# EAGLE library part BNO086 (library bno086)
Hillcrest Labs BNO086 - High Precision IMU (VR) The VR IMU uses the impressive BNO086 IMU. This IC has a combination triple axis accelerometer/gyro/magnetometer packaged with an ARM Cortex M0+ running powerful algorithms. The BNO080 Inertial Measurement Unit (IMU) produces accurate rotation vector headings, excellently suited for VR and other heading applications with a static rotation error of 2 degrees or less. It’s what we’ve been waiting for: all the sensor data is combined and drift corrected into meaningful, accurate IMU information. SparkFun Products: VR IMU (BNO086) <https://www.sparkfun.com/products/22856>
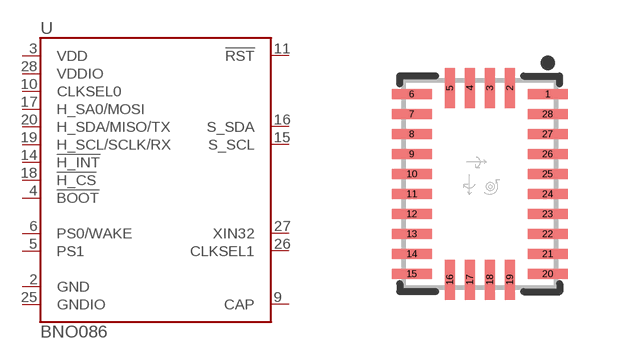
[diagram p0: symbol with the pads of LGA-28; footprint LGA-28]

Designator prefix U

## BNO086 (PROD_ID: IC-19164; VALUE: BNO086)  [LGA-28]
2  GND
3  VDD
4  !BOOT
5  PS1
6  PS0/WAKE
9  CAP
10  CLKSEL0
11  !RST
14  !H_INT
15  S_SCL
16  S_SDA
17  H_SA0/MOSI
18  !H_CS
19  H_SCL/SCLK/RX
20  H_SDA/MISO/TX
25  GNDIO
26  CLKSEL1
27  XIN32
28  VDDIO

## Footprint LGA-28 (pad centres in mm)
LGA-28 - LGA-28 package for the BNO080 IMU Specifications: Pin count: 28 Pin pitch: 0.5mm Area: 3.8mm X 5.2mm Datasheet referenced for footprint <http://www.hillcrestlabs.com/download/5a05f340566d07c196001ec1> Example device(s): BNO080 <https://www.sparkfun.com/products/14618>
smd 1 x 0.25: 1 1.7,2.25; 6 -1.7,2.25; 7 -1.7,1.75; 8 -1.7,1.25; 9 -1.7,0.75; 10 -1.7,0.25; 11 -1.7,-0.25; 12 -1.7,-0.75; 13 -1.7,-1.25; 14 -1.7,-1.75; 15 -1.7,-2.25; 20 1.7,-2.25; 21 1.7,-1.75; 22 1.7,-1.25; 23 1.7,-0.75; 24 1.7,-0.25; 25 1.7,0.25; 26 1.7,0.75; 27 1.7,1.25; 28 1.7,1.75
smd 0.25 x 1: 2 0.75,2.4; 3 0.25,2.4; 4 -0.25,2.4; 5 -0.75,2.4; 16 -0.75,-2.4; 17 -0.25,-2.4; 18 0.25,-2.4; 19 0.75,-2.4